# EAGLE library part RELAY:DPDT-LATCHING,DUALCOIL (library QuantumOptics)
DPDT, latching, dual coil, Omron G6SK-2F, http://www.components.omron.com/components/web/pdflib.nsf/0/3AB780E03885359085257201007DD68A/$file/G6S_0310.pdf
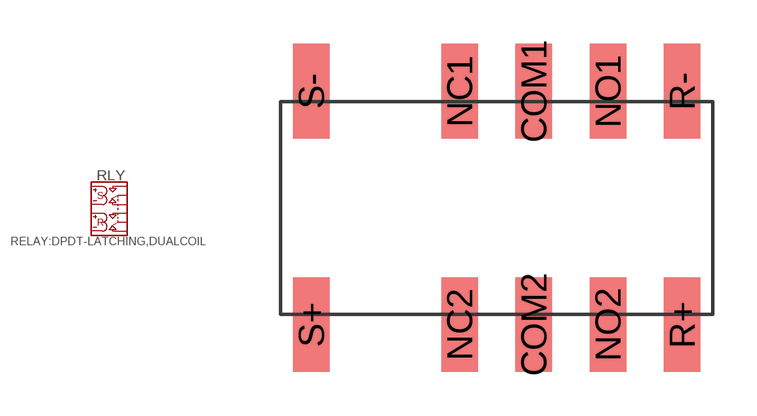
[diagram p132: symbol with the pads of RELAY:DPDT-LATCHING(OMRON_G6SK-2F); footprint RELAY:DPDT-LATCHING(OMRON_G6SK-2F)]

Designator prefix RLY

## RELAY:DPDT-LATCHING,DUALCOIL  [RELAY:DPDT-LATCHING(OMRON_G6SK-2F)]
COM1  COM1
COM2  COM2
NC1  NC1
NC2  NC2
NO1  NO1
NO2  NO2
R+  RST+
R-  RST-
S+  SET+
S-  SET-

## Footprint RELAY:DPDT-LATCHING(OMRON_G6SK-2F) (pad centres in mm)
DPDT, latching, dual coil, Omron G6SK-2F and Panasonic TX2SA-LT-, drop-in replacements.
smd 1.25 x 3.25: COM1 1.27,4; COM2 1.27,-4; NC1 -1.27,4; NC2 -1.27,-4; NO1 3.81,4; NO2 3.81,-4; R+ 6.35,-4; R- 6.35,4; S+ -6.35,-4; S- -6.35,4